# Altium schematic symbol library LM8330.SchLib: 1 symbol
Pins are listed as number, name and electrical type; pins without a type are passive.

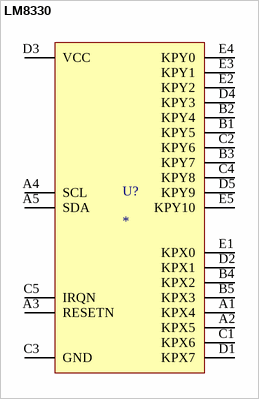
[diagram p0: symbol LM8330]

## LM8330
designator U?
pins: A1 KPX4, A2 KPX5, A3 RESETN, A4 SCL, A5 SDA, B1 KPY5, B2 KPY4, B3 KPY7, B4 KPX2, B5 KPX3, C1 KPX6, C2 KPY6, C3 GND, C4 KPY8, C5 IRQN, D1 KPX7, D2 KPX1, D3 VCC, D4 KPY3, D5 KPY9, E1 KPX0, E2 KPY2, E3 KPY1, E4 KPY0, E5 KPY10